# Altium footprint library bluebox-micro-1B.PcbLib: 17 footprints (part 1 of 2)
Each footprint in its own frame and in the unit in brackets; x right, y up, seen from the top. Pads: shape width x height; smd on the part's side, far side on the other; paste and mask are expansions set on the pad; w line width, h text height; cw(c..) or ccw(c..) is an arc to the next point about the centre after c.
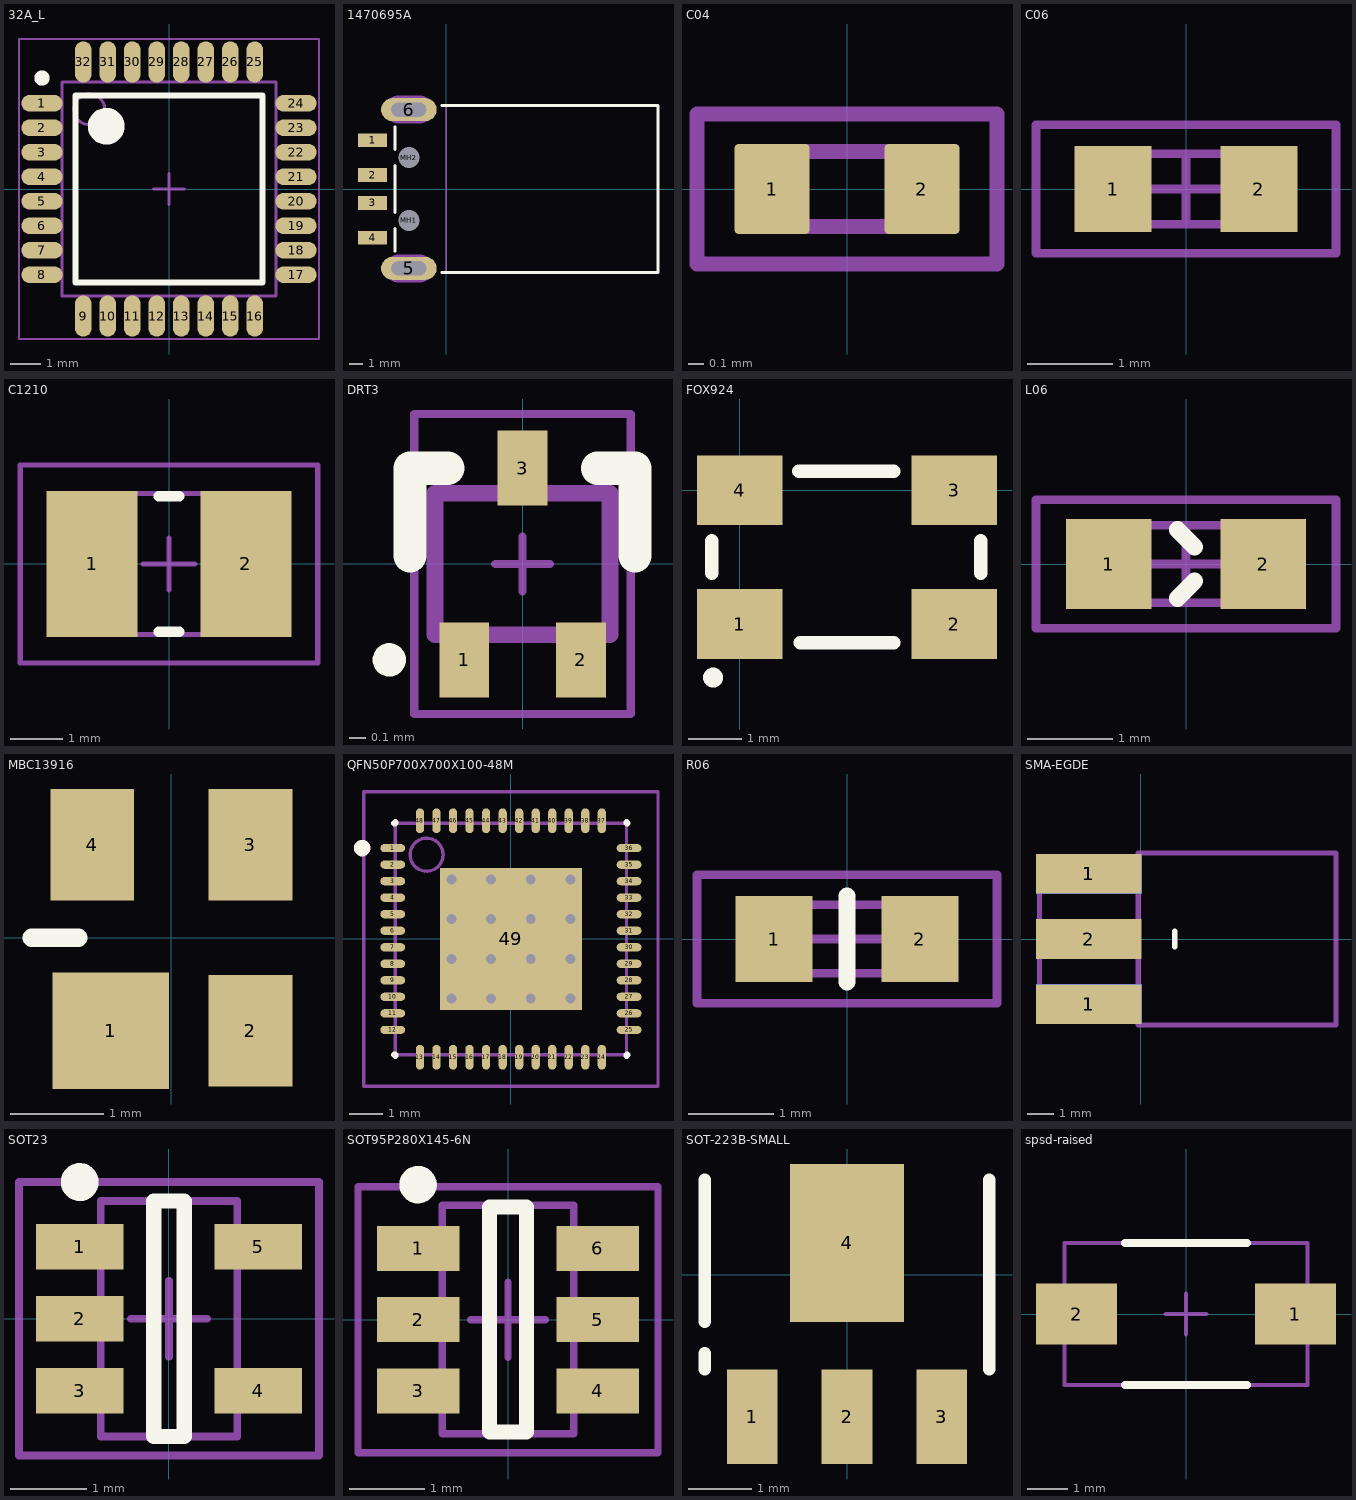
[diagram p0: the footprints below, top view; thin cyan lines are the x and y axes]

## 32A_L [mm]
pads (32):
  oval 1.35x0.55 smd: 1(-4.15,2.8) 2(-4.15,2) 3(-4.15,1.2) 4(-4.15,0.4) 5(-4.15,-0.4) 6(-4.15,-1.2) 7(-4.15,-2) 8(-4.15,-2.8) 17(4.15,-2.8) 18(4.15,-2) 19(4.15,-1.2) 20(4.15,-0.4) 21(4.15,0.4) 22(4.15,1.2) 23(4.15,2) 24(4.15,2.8)
  oval 0.55x1.35 smd: 9(-2.8,-4.15) 10(-2,-4.15) 11(-1.2,-4.15) 12(-0.4,-4.15) 13(0.4,-4.15) 14(1.2,-4.15) 15(2,-4.15) 16(2.8,-4.15) 25(2.8,4.15) 26(2,4.15) 27(1.2,4.15) 28(0.4,4.15) 29(-0.4,4.15) 30(-1.2,4.15) 31(-2,4.15) 32(-2.8,4.15)
Top Overlay:
  circle w0.25: c-4.15,3.625 r0.125
  circle w0.6: c-2.05,2.05 r0.3
  lines w0.2: -3.05,-3.05 -3.05,3.05 3.05,3.05 3.05,-3.05 -3.05,-3.05
Mechanical 13:
  circle w0.1: c-2.6,2.6 r0.5
  lines w0.1: -3.5,-3.5 -3.5,3.5 3.5,3.5 3.5,-3.5 -3.5,-3.5
Mechanical 15:
  lines w0.05: -4.9,-4.9 -4.9,4.9 4.9,4.9 4.9,-4.9 -4.9,-4.9
  lines w0.1: -0.5,0 0.5,0 ; 0,-0.5 0,0.5
3D body: height 1.2, standoff 0, extent -3.5,-3.5 3.5,3.5

## 1470695A [mm]
pads (8):
  rect 2.1x1 smd: 1(-5.3,3.5) 2(-5.3,1) 3(-5.3,-1) 4(-5.3,-3.5)
  oval 4x1.65 hole 1 slot 2.5 at 0 deg: 5(-2.7,-5.7) 6(-2.7,5.7)
  round 1.2 hole 1.5 unplated: MH1(-2.7,-2.25) MH2(-2.7,2.25)
Top Overlay:
  lines w0.2: -3.7,-4.475 -3.7,-2.83 ; -3.7,-1.68 -3.7,1.68 ; -3.7,2.83 -3.7,4.475 ; -0.33,-6 15.2,-6 15.2,6 -0.33,6
Mechanical 1:
  lines w0.1: 0,-6 0,6
  lines w1: -3.45,-5.7 -1.95,-5.7 ; -3.45,5.7 -1.95,5.7
  text "PCB Edge" at 0.473,-5.173 h0.25
Mechanical 2:
  lines w2.016: -3.45,-5.7 -1.95,-5.7 ; -3.45,5.7 -1.95,5.7

## C04 [mm] "Chip Capacitor, 2-Leads, Body 1.0x0.5mm, IPC Low Density"
height 0.52
pads (2):
  rrect10% 0.5x0.6 smd: 1(-0.5,0) 2(0.5,0)
Mechanical 13:
  lines w0.1: -0.5,-0.25 -0.5,0.25 0.5,0.25 0.5,-0.25 -0.5,-0.25
Mechanical 15:
  lines w0.1: -1,-0.5 -1,0.5 1,0.5 1,-0.5 -1,-0.5
3D body: height 0.52, standoff 0.01, extent -0.5,-0.25 0.5,0.25

## C06 [mm]
pads (2):
  rect 0.9x1 smd: 1(-0.85,0) 2(0.85,0)
Mechanical 13:
  lines w0.1: -0.8,-0.41 0.8,-0.41 0.8,0.41 -0.8,0.41 -0.8,-0.41
Mechanical 15:
  lines w0.1: -0.41,0 0.41,0 ; 0,-0.41 0,0.41 ; -1.75,-0.75 1.75,-0.75 1.75,0.75 -1.75,0.75 -1.75,-0.75
3D body: height 0.82, standoff 0, extent -0.8,-0.41 0.8,0.41

## C1210 [mm]
pads (2):
  rect 1.75x2.8 smd: 1(-1.475,0) 2(1.475,0)
Top Overlay:
  lines w0.2: -0.2,-1.3 0.2,-1.3 ; -0.2,1.3 0.2,1.3
Mechanical 13:
  lines w0.1: -1.75,-1.35 -1.75,1.35 1.75,1.35 1.75,-1.35 -1.75,-1.35
Mechanical 15:
  lines w0.1: -0.5,0 0.5,0 ; 0,-0.5 0,0.5 ; -2.85,-1.9 -2.85,1.9 2.85,1.9 2.85,-1.9 -2.85,-1.9
3D body: height 2.7, standoff 0, extent -1.75,-1.35 1.75,1.35

## DRT3 [mm]
pads (3):
  rect 0.3x0.45 smd: 1(-0.35,-0.575) 2(0.35,-0.575) 3(0,0.575)
Top Overlay:
  circle w0.1: c-0.8,-0.575 r0.05
  lines w0.2: -0.675,0.05 -0.675,0.575 -0.45,0.575 ; 0.45,0.575 0.675,0.575 0.675,0.05
Mechanical 13:
  lines w0.1: -0.525,-0.425 -0.525,0.425 0.525,0.425 0.525,-0.425 -0.525,-0.425
Mechanical 15:
  lines w0.05: -0.165,0 0.165,0 ; 0,-0.165 0,0.165 ; -0.65,-0.9 0.65,-0.9 0.65,0.9 -0.65,0.9 -0.65,-0.9
3D body: height 0.5, standoff 0, extent -0.524,-0.424 0.524,0.424

## FOX924 [mm]
pads (4):
  rect 1.6x1.3 smd: 1(0,-2.5) 2(4,-2.5) 3(4,0) 4(0,0)
Top Overlay:
  circle w0.254: c-0.5,-3.5 r0.059
  lines w0.254: -0.525,-1.55 -0.525,-0.95 ; 1.1,0.35 2.875,0.35 ; 1.125,-2.85 2.875,-2.85 ; 4.5,-1.55 4.5,-0.95
3D body: height 1.5, standoff 0, extent -0.525,-2.825 4.5,0.35

## L06 [mm]
pads (2):
  rect 1x1.05 smd: 1(-0.9,0) 2(0.9,0)
Top Overlay:
  lines w0.2: -0.1,-0.4 0.1,-0.2 ; -0.1,0.4 0.1,0.2
Mechanical 13:
  lines w0.1: -0.85,-0.45 0.85,-0.45 0.85,0.45 -0.85,0.45 -0.85,-0.45
Mechanical 15:
  lines w0.1: -0.45,0 0.45,0 ; 0,-0.45 0,0.45 ; -1.75,-0.75 1.75,-0.75 1.75,0.75 -1.75,0.75 -1.75,-0.75
3D body: height 0.9, standoff 0, extent -0.85,-0.45 0.85,0.45

## MBC13916 [mm]
pads (4):
  rect 1.25x1.25 smd: 1(-0.65,-1)
  rect 0.9x1.2 smd: 2(0.85,-1) 3(0.85,1) 4(-0.85,1)
Top Overlay:
  lines w0.2: -1.5,0 -1,0

## QFN50P700X700X100-48M [mm]
pads (49):
  oval 0.75x0.25 smd mask+0.154: 1(-3.575,2.75) 2(-3.575,2.25) 3(-3.575,1.75) 4(-3.575,1.25) 5(-3.575,0.75) 6(-3.575,0.25) 7(-3.575,-0.25) 8(-3.575,-0.75) 9(-3.575,-1.25) 10(-3.575,-1.75) 11(-3.575,-2.25) 12(-3.575,-2.75) 25(3.575,-2.75) 26(3.575,-2.25) 27(3.575,-1.75) 28(3.575,-1.25) 29(3.575,-0.75) 30(3.575,-0.25) 31(3.575,0.25) 32(3.575,0.75) 33(3.575,1.25) 34(3.575,1.75) 35(3.575,2.25) 36(3.575,2.75)
  oval 0.25x0.75 smd mask+0.154: 13(-2.75,-3.575) 14(-2.25,-3.575) 15(-1.75,-3.575) 16(-1.25,-3.575) 17(-0.75,-3.575) 18(-0.25,-3.575) 19(0.25,-3.575) 20(0.75,-3.575) 21(1.25,-3.575) 22(1.75,-3.575) 23(2.25,-3.575) 24(2.75,-3.575) 37(2.75,3.575) 38(2.25,3.575) 39(1.75,3.575) 40(1.25,3.575) 41(0.75,3.575) 42(0.25,3.575) 43(-0.25,3.575) 44(-0.75,3.575) 45(-1.25,3.575) 46(-1.75,3.575) 47(-2.25,3.575) 48(-2.75,3.575)
  rect 4.3x4.3 smd mask+0.154: 49(0,0)
via -1.8,1.8 diameter 0.7 hole 0.3
via -0.6,1.8 diameter 0.7 hole 0.3
via 0.6,1.8 diameter 0.7 hole 0.3
via 1.8,1.8 diameter 0.7 hole 0.3
via -1.8,0.6 diameter 0.7 hole 0.3
via -0.6,0.6 diameter 0.7 hole 0.3
via 0.6,0.6 diameter 0.7 hole 0.3
via 1.8,0.6 diameter 0.7 hole 0.3
via -1.8,-0.6 diameter 0.7 hole 0.3
via -0.6,-0.6 diameter 0.7 hole 0.3
via 0.6,-0.6 diameter 0.7 hole 0.3
via 1.8,-0.6 diameter 0.7 hole 0.3
via -1.8,-1.8 diameter 0.7 hole 0.3
via -0.6,-1.8 diameter 0.7 hole 0.3
via 0.6,-1.8 diameter 0.7 hole 0.3
via 1.8,-1.8 diameter 0.7 hole 0.3
Top Overlay:
  circle w0.25: c-4.5,2.75 r0.125
  lines w0.2: -3.525,-3.5 -3.5,-3.5 -3.5,-3.525 ; -3.525,3.5 -3.5,3.5 -3.5,3.525 ; 3.5,-3.525 3.5,-3.5 3.525,-3.5 ; 3.5,3.525 3.5,3.5 3.525,3.5
Mechanical 13:
  circle w0.1: c-2.55,2.55 r0.5
  lines w0.1: -3.5,-3.5 3.5,-3.5 3.5,3.5 -3.5,3.5 -3.5,-3.5
Mechanical 15:
  lines w0.1: -0.5,0 0.5,0 ; 0,-0.5 0,0.5 ; -4.45,-4.45 4.45,-4.45 4.45,4.45 -4.45,4.45 -4.45,-4.45
3D body: height 1, standoff 0.01, extent -3.5,-3.5 3.5,3.5

## R06 [mm]
pads (2):
  rect 0.9x1 smd: 1(-0.85,0) 2(0.85,0)
Top Overlay:
  lines w0.2: 0,-0.5 0,0.5
Mechanical 13:
  lines w0.1: -0.8,-0.4 -0.8,0.4 0.8,0.4 0.8,-0.4 -0.8,-0.4
Mechanical 15:
  lines w0.1: -0.4,0 0.4,0 ; 0,-0.4 0,0.4 ; -1.75,-0.75 -1.75,0.75 1.75,0.75 1.75,-0.75 -1.75,-0.75
3D body: height 0.55, standoff 0, extent -0.8,-0.4 0.8,0.4

## SMA-EGDE [mm]
pads (5):
  rect 4.06x1.52 smd: 1(-2,-2.5) 1(-2,2.5) 2(-2,0)
  rect 4.06x1.52 smd far side: 1(-2,-2.5) 1(-2,2.5)
Top Overlay:
  lines w0.2: 1.3,-0.3 1.3,0.3
Mechanical 15:
  lines w0.2: -0.1,-3.1 -3.9,-3.1 -3.9,3.1 -0.1,3.1 ; -0.1,-3.1 -0.1,-3.3 7.5,-3.3 7.5,3.3 -0.1,3.3 -0.1,3.1 ; -0.1,-3.1 -0.1,3.1

## SOT23 [mm] "SOT23, 5-Leads, Body 3,1x3,2mm (max), Pitch 0,95mm, IPC Medium Density"
height 1.45
pads (5):
  rect 1.15x0.6 smd: 1(-1.175,0.95) 2(-1.175,0) 3(-1.175,-0.95) 4(1.175,-0.95) 5(1.175,0.95)
Top Overlay:
  circle w0.25: c-1.175,1.8 r0.125
  lines w0.2: -0.2,-1.55 -0.2,1.55 0.2,1.55 0.2,-1.55 -0.2,-1.55
Mechanical 13:
  lines w0.1: -0.9,-1.55 0.9,-1.55 0.9,1.55 -0.9,1.55 -0.9,-1.55
Mechanical 15:
  lines w0.1: -0.5,0 0.5,0 ; 0,-0.5 0,0.5 ; -1.975,-1.8 1.975,-1.8 1.975,1.8 -1.975,1.8 -1.975,-1.8
3D body: height 1.45, standoff 0, extent -0.9,-1.55 0.9,1.55

## SOT95P280X145-6N [mm]
pads (6):
  rect 1.1x0.6 smd: 1(-1.2,0.95) 2(-1.2,0) 3(-1.2,-0.95) 4(1.2,-0.95) 5(1.2,0) 6(1.2,0.95)
Top Overlay:
  circle w0.25: c-1.2,1.8 r0.125
  lines w0.2: -0.25,-1.5 0.25,-1.5 0.25,1.5 -0.25,1.5 -0.25,-1.5
Mechanical 13:
  lines w0.1: -0.875,-1.525 -0.875,1.525 0.875,1.525 0.875,-1.525 -0.875,-1.525
Mechanical 15:
  lines w0.1: -0.5,0 0.5,0 ; 0,-0.5 0,0.5 ; -2,-1.775 -2,1.775 2,1.775 2,-1.775 -2,-1.775
3D body: height 1.45, standoff 0, extent -0.875,-1.525 0.875,1.525

## SOT-223B-SMALL [mm]
pads (4):
  rect 0.8x1.5 smd: 1(-1.5,-2.25) 2(0,-2.25) 3(1.5,-2.25)
  rect 1.8x2.5 smd: 4(0,0.5)
Top Overlay:
  lines w0.2: -2.25,-1.5 -2.25,-1.25 ; -2.25,-0.75 -2.25,1.5 ; 2.25,-1.5 2.25,1.5

## spsd-raised [mm]
pads (2):
  rect 2x1.5 smd: 1(2.7,0) 2(-2.7,0)
Top Overlay:
  lines w0.2: -1.5,-1.75 1.5,-1.75 ; -1.5,1.75 1.5,1.75
Mechanical 13:
  lines w0.1: -3,-1.75 3,-1.75 3,1.75 -3,1.75 -3,-1.75
Mechanical 15:
  lines w0.1: -0.5,0 0.5,0 ; 0,-0.5 0,0.5